# Altium footprint library Shelestov_IC.PcbLib: 10 footprints
Each footprint in its own frame and in the unit in brackets; x right, y up, seen from the top. Pads: shape width x height; smd on the part's side, far side on the other; paste and mask are expansions set on the pad; w line width, h text height; cw(c..) or ccw(c..) is an arc to the next point about the centre after c.
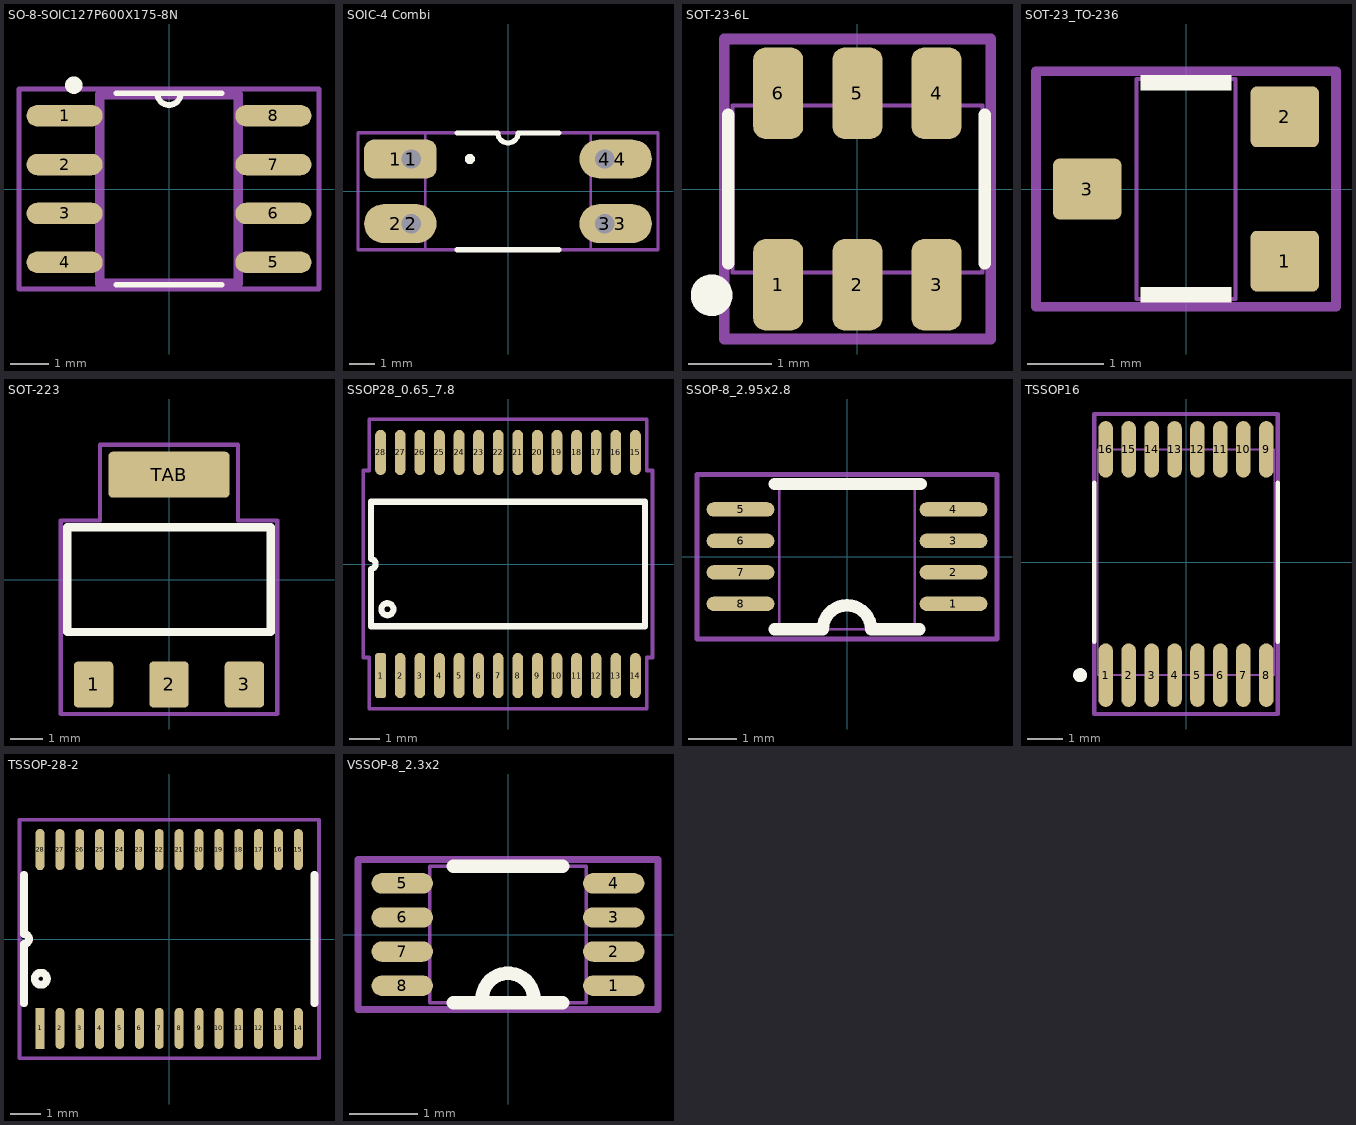
[diagram p0: the footprints below, top view; thin cyan lines are the x and y axes]

## SO-8-SOIC127P600X175-8N [mil]
pads (8):
  rrect100% 78x22 smd: 1(-106.84,75) 2(-106.84,25) 3(-106.84,-25) 4(-106.84,-75) 5(106.84,-75) 6(106.84,-25) 7(106.84,25) 8(106.84,75)
Top Overlay:
  circle w10: c-97.44,106.3 r3.94
  lines w6: -54,-98 54,-98 ; -54,98 -12,98 ; 54,98 12,98 ; -12,98 ccw(c0,98) 12,98 ; -12,98 12,98
Mechanical 4:
  lines w0: -12,98 ccw(c0,98) 12,98 ; -12,98 ccw(c0,98) 12,98 ; -12,98 12,98 ; -12,98 12,98
Top Assembly:
  lines w10: -70.86,-96.85 -70.86,96.85 70.86,96.85 70.86,-96.85 -70.86,-96.85
  text ".Designator" at -13.37,133.11 h59.06
Top Courtyard:
  lines w5: -153.54,-102.36 153.54,-102.36 153.54,102.36 -153.54,102.36 -153.54,-102.36
3D body "User Library-SO-8N.STEP": height 65.75, standoff 1.97, extent -118.1,-96.85 118.11,96.85

## SOIC-4 Combi [mm]
pads (8):
  rrect50% 2.5x1.524 smd: 1(-4.41,1.27)
  rrect50% 2x1.524 hole 0.762: 1(-3.81,1.27)
  oval 2.5x1.524 smd: 2(-4.41,-1.27) 3(4.41,-1.27) 4(4.41,1.27)
  oval 2x1.524 hole 0.762: 2(-3.81,-1.27) 3(3.81,-1.27) 4(3.81,1.27)
Top Overlay:
  circle w0.2: c-1.5,1.27 r0.1
  lines w0.2: -2,-2.3 2,-2.3 ; -2,2.3 -0.4,2.3 ccw(c0,2.3) 0.4,2.3 2,2.3
Top Assembly:
  lines w0.1: -3.25,-2.3 -3.25,2.3 0,2.3 3.25,2.3 3.25,-2.3 0,-2.3 -3.25,-2.3
  text ".Designator" at -4.502,-0.452 h2
Top Courtyard:
  lines w0.127: -5.9,-2.3 -5.9,2.3 5.9,2.3 5.9,-2.3 -5.9,-2.3
3D body "PC817_Gullwing.STEP": height 3.85, standoff 0, extent -5,-2.29 5,2.29

## SOT-23-6L [mm]
pads (6):
  rrect50% 0.6x1.1 smd mask+0.095: 1(-0.95,-1.15) 2(0,-1.15) 3(0.95,-1.15) 4(0.95,1.15) 5(0,1.15) 6(-0.95,1.15)
Top Overlay:
  circle w0.3: c-1.75,-1.275 r0.1
  lines w0.152: -1.55,-0.887 -1.55,0.891 ; 1.529,-0.887 1.529,0.891
Top Assembly:
  lines w0.05: -1.5,-1 -1.5,0 -1.5,1 0,1 1.5,1 1.5,0 1.5,-1 0,-1 -1.5,-1
  text ".Designator" at -2.705,-0.272 h1.2
Top Courtyard:
  lines w0.127: -1.6,-1.8 -1.6,0 -1.6,1.8 1.6,1.8 1.6,0 1.6,-1.8 -1.6,-1.8
3D body "User Library-SOT-23-6L.step": height 1.4, standoff 0, extent -1.521,-1.499 1.527,1.501

## SOT-23_TO-236 [mm]
pads (3):
  rrect20% 0.9x0.8 smd: 1(1.3,-0.95) 2(1.3,0.95) 3(-1.3,0)
Top Overlay:
  rectangle: -0.6,1.3 0.6,1.5
  region: 0.601,-1.293 -0.599,-1.293 -0.599,-1.493 0.601,-1.493
Top Assembly:
  lines w0.05: -0.65,-1.45 -0.65,0 -0.65,1.45 0,1.45 0.65,1.45 0.65,0 0.65,-1.45 0,-1.45 -0.65,-1.45
  text ".Designator" at 0.316,-3.15 h1.4
Top Courtyard:
  lines w0.127: -1.975,-1.55 -1.975,0 -1.975,1.55 0,1.55 1.975,1.55 1.975,0 1.975,-1.55 0,-1.55 -1.975,-1.55
3D body "SOT-23.step": height 1.1, standoff 0, extent -1.25,-1.5 1.25,1.5

## SOT-223 [mm]
pads (4):
  rrect20% 1.2x1.4 smd: 1(-2.3,-3.2) 2(0,-3.2) 3(2.3,-3.2)
  rrect20% 3.7x1.4 smd: TAB(0,3.2)
Top Overlay:
  lines w0.254: -3.1,-1.6 -3.1,0 -3.1,1.6 0,1.6 3.1,1.6 3.1,0 3.1,-1.6 0,-1.6 -3.1,-1.6
Top Assembly:
  text ".Designator" at -5.632,-0.566 h2.5
Top Courtyard:
  lines w0.127: -3.3,-4.1 -3.3,0 -3.3,1.8 -2.1,1.8 -2.1,4.111 0,4.111 2.1,4.111 2.1,1.8 3.3,1.8 3.3,0 3.3,-4.1 0,-4.1 -3.3,-4.1
3D body "CircuitWorks-SOT-223.step": height 1.7, standoff 0.02, extent -3.25,-3.48 3.25,3.48

## SSOP28_0.65_7.8 [mm]
pads (28):
  rrect50% 0.36x1.5 smd: 1(-4.225,-3.7)
  oval 0.36x1.5 smd: 2(-3.575,-3.7) 3(-2.925,-3.7) 4(-2.275,-3.7) 5(-1.625,-3.7) 6(-0.975,-3.7) 7(-0.325,-3.7) 8(0.325,-3.7) 9(0.975,-3.7) 10(1.625,-3.7) 11(2.275,-3.7) 12(2.925,-3.7) 13(3.575,-3.7) 14(4.225,-3.7) 15(4.225,3.7) 16(3.575,3.7) 17(2.925,3.7) 18(2.275,3.7) 19(1.625,3.7) 20(0.975,3.7) 21(0.325,3.7) 22(-0.325,3.7) 23(-0.975,3.7) 24(-1.625,3.7) 25(-2.275,3.7) 26(-2.925,3.7) 27(-3.575,3.7) 28(-4.225,3.7)
Top Overlay:
  circle w0.2: c-4,-1.5 r0.2
  lines w0.2: -4.55,-2.065 4.55,-2.065 4.55,2.065 -4.55,2.065 -4.55,0.162 cw(c-4.55,0) -4.55,-0.162 -4.55,-2.065
Top Assembly:
  text ".Designator" at -5.632,-0.566 h2.5
Top Courtyard:
  lines w0.127: 4.791,-0.015 4.791,-3.1 4.6,-3.1 4.6,-4.8 0,-4.8 -4.6,-4.8 -4.6,-3.1 -4.8,-3.1 -4.8,0 -4.8,3.1 -4.6,3.1 -4.6,4.8 0,4.8 4.6,4.8 4.6,3.1 4.791,3.1 4.791,0.015
3D body "ft232rl-reel.stp": height 1.85, standoff 0, extent -5.1,-4 5.1,3.8

## SSOP-8_2.95x2.8 [mm]
pads (8):
  rrect100% 1.4x0.3 smd: 1(2.2,-0.975) 2(2.2,-0.325) 3(2.2,0.325) 4(2.2,0.975) 5(-2.2,0.975) 6(-2.2,0.325) 7(-2.2,-0.325) 8(-2.2,-0.975)
Top Overlay:
  lines w0.254: -1.5,-1.5 -0.5,-1.5 cw(c0,-1.504) 0.499,-1.5 ; -1.5,1.5 1.524,1.5 ; 0.5,-1.5 1.5,-1.5
Top Assembly:
  lines w0.05: -1.4,-1.5 1.4,-1.5 1.4,1.5 -1.4,1.5 -1.4,-1.5
  text ".Designator" at 0.452,-4.502 h2
Top Courtyard:
  lines w0.1: -3.1,-1.7 3.1,-1.7 3.1,1.7 -3.1,1.7 -3.1,-1.7
3D body "TXS0102DCTR-SSOP8.step": height 1.05, standoff 0, extent -2.146,-1.575 2.146,1.575

## TSSOP16 [mm]
pads (16):
  rrect100% 0.41x1.8 smd: 1(-2.275,-3.2) 2(-1.625,-3.2) 3(-0.975,-3.2) 4(-0.325,-3.2) 5(0.325,-3.2) 6(0.975,-3.2) 7(1.625,-3.2) 8(2.275,-3.2)
  rrect100% 0.41x1.6 smd: 9(2.275,3.2) 10(1.625,3.2) 11(0.975,3.2) 12(0.325,3.2) 13(-0.325,3.2) 14(-0.975,3.2) 15(-1.625,3.2) 16(-2.275,3.2)
Top Overlay:
  circle w0.2: c-3,-3.2 r0.1
  lines w0.127: -2.6,-2.25 -2.6,2.25 ; 2.6,-2.25 2.6,2.25
Top Assembly:
  lines w0.05: -2.5,-3.197 0,-3.197 2.5,-3.197 2.5,0 2.5,3.197 0,3.197 -2.5,3.197 -2.5,0 -2.5,-3.197
  text ".Designator" at -5.632,-0.566 h2.5
Top Courtyard:
  lines w0.127: -2.6,-4.3 0,-4.3 2.6,-4.3 2.6,0 2.6,4.2 0,4.2 -2.6,4.2 -2.6,0 -2.6,-4.3
3D body "TSSOP-16-1.step": height 1.1, standoff 0, extent -2.5,-3.2 2.5,3.2

## TSSOP-28-2 [mm]
pads (28):
  rect 0.29x1.35 smd: 1(-4.225,-2.925)
  oval 0.29x1.35 smd: 2(-3.575,-2.925) 3(-2.925,-2.925) 4(-2.275,-2.925) 5(-1.625,-2.925) 6(-0.975,-2.925) 7(-0.325,-2.925) 8(0.325,-2.925) 9(0.975,-2.925) 10(1.625,-2.925) 11(2.275,-2.925) 12(2.925,-2.925) 13(3.575,-2.925) 14(4.225,-2.925) 15(4.225,2.925) 16(3.575,2.925) 17(2.925,2.925) 18(2.275,2.925) 19(1.625,2.925) 20(0.975,2.925) 21(0.325,2.925) 22(-0.325,2.925) 23(-0.975,2.925) 24(-1.625,2.925) 25(-2.275,2.925) 26(-2.925,2.925) 27(-3.575,2.925) 28(-4.225,2.925)
Top Overlay:
  circle w0.254: c-4.2,-1.3 r0.2
  lines w0.254: -4.75,-2.1 -4.75,-0.162 ccw(c-4.75,0) -4.75,0.162 -4.75,2.1 ; 4.75,-2.1 4.75,2.1
Top Assembly:
  text ".Designator" at -5.632,-0.566 h2.5
Top Courtyard:
  lines w0.127: -4.9,-3.9 0,-3.9 4.9,-3.9 4.9,0 4.9,3.9 0,3.9 -4.9,3.9 -4.9,0 -4.9,-3.9
3D body "TSSOP-28_P065.STEP": height 1.02, standoff 0.03, extent -4.85,-3.2 4.85,3.2

## VSSOP-8_2.3x2 [mm]
pads (8):
  oval 0.9x0.3 smd: 1(1.55,-0.75) 2(1.55,-0.25) 3(1.55,0.25) 4(1.55,0.75) 5(-1.55,0.75) 6(-1.55,0.25) 7(-1.55,-0.25) 8(-1.55,-0.75)
Top Overlay:
  lines w0.2: -0.8,-1 0.8,-1 ; -0.8,1 0.8,1 ; -0.381,-0.966 cw(c0,-0.95) 0.381,-0.966
Top Assembly:
  lines w0.05: -1.15,-1 1.15,-1 1.15,1 -1.15,1 -1.15,-1
  text ".Designator" at 0.339,-3.381 h1.5
Top Courtyard:
  lines w0.1: -2.2,-1.1 -2.2,1.1 2.2,1.1 2.2,-1.1 -2.2,-1.1
3D body "VSSOP8-1.STEP": height 0.9, standoff 0, extent -1.6,-1.05 1.6,1.05